# Altium footprint library NEC_RFINT.PcbLib: 4 footprints
Each footprint in its own frame and in the unit in brackets; x right, y up, seen from the top. Pads: shape width x height; smd on the part's side, far side on the other; paste and mask are expansions set on the pad; w line width, h text height; cw(c..) or ccw(c..) is an arc to the next point about the centre after c.
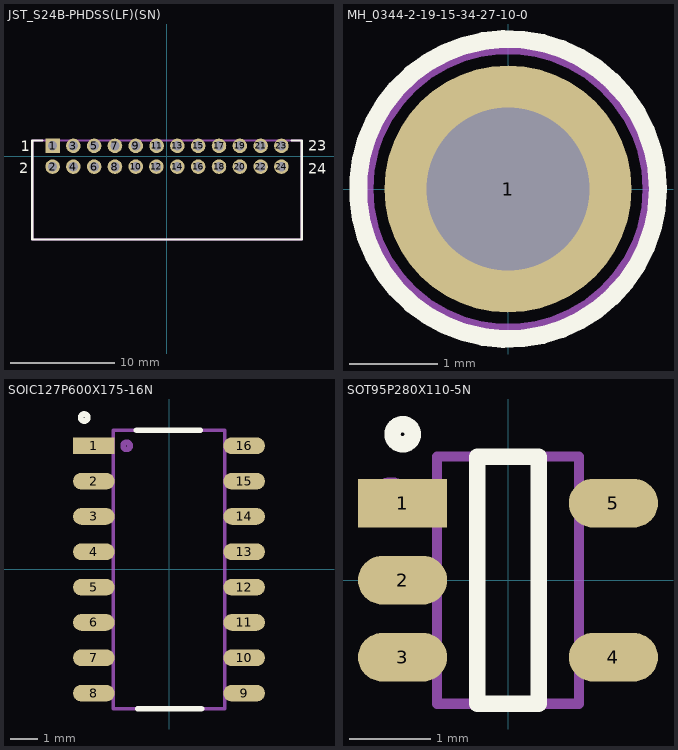
[diagram p0: the footprints below, top view; thin cyan lines are the x and y axes]

## JST_S24B-PHDSS(LF)(SN) [mm] "CONN HEADER R/A 26POS 2MM"
height 5
pads (24):
  rect 1.4x1.4 hole 0.9 mask+0.051: 1(-11,1)
  round 1.4 hole 0.9 mask+0.051: 2(-11,-1) 3(-9,1) 4(-9,-1) 5(-7,1) 6(-7,-1) 7(-5,1) 8(-5,-1) 9(-3,1) 10(-3,-1) 11(-1,1) 12(-1.016,-1) 13(1,1) 14(1,-1) 15(3,1) 16(3,-1) 17(5,1) 18(5,-1) 19(7,1) 20(7,-1) 21(9,1) 22(9,-1) 23(11,1) 24(11,-1)
Top Overlay:
  lines w0.203: -11.954,1.5 -12.95,1.5 ; 11.954,1.5 12.95,1.5 12.95,-8 -12.95,-8 -12.95,1.5 ; -12.95,1.5 -12.95,1.5
  text "1" at -14.037,0.483 h1.02
  text "2" at -14.224,-1.651 h1.02
  text "23" at 13.589,0.508 h1.02
  text "24" at 13.595,-1.66 h1.02
Mechanical 1:
  text "'.Designator'" at 0,0 h1.52
Mechanical 15:
  circle w0.127: c-11.049,0.889 r0.359
  lines w0.203: -12.95,-8 12.95,-8 12.95,1.5 -12.95,1.5 -12.95,-8
3D body "S24B-PHDSS.STEP": height 5, standoff -3, extent -12.95,-8 12.95,1.5

## MH_0344-2-19-15-34-27-10-0 [mm] "CONN PIN RCPT .032-.046 SWAGE"
height 5.84
pads (1):
  round 2.8 hole 1.85: 1(0,0)
Top Overlay:
  circle w0.203: c0,0 r1.7
Mechanical 1:
  text "'.Designator'" at 0,0 h1.52
Mechanical 15:
  circle w0.127: c0,0 r1.59

## SOIC127P600X175-16N [mm] "74HC4052D,653  2 Circuit IC Switch 4:1 150 Ohm 16-SO"
height 1.75
pads (16):
  rect 1.5x0.6 smd mask+0.076: 1(-2.7,4.445)
  oval 1.5x0.6 smd mask+0.076: 2(-2.7,3.175) 3(-2.7,1.905) 4(-2.7,0.635) 5(-2.7,-0.635) 6(-2.7,-1.905) 7(-2.7,-3.175) 8(-2.7,-4.445) 9(2.7,-4.445) 10(2.7,-3.175) 11(2.7,-1.905) 12(2.7,-0.635) 13(2.7,0.635) 14(2.7,1.905) 15(2.7,3.175) 16(2.7,4.445)
Top Overlay:
  circle w0.203: c-3.048,5.461 r0.127
  lines w0.203: -1.168,5 1.118,5 ; -1.118,-5 1.168,-5
Mechanical 1:
  text ".Designator" at 0,0 h1.52
Mechanical 15:
  circle w0.203: c-1.524,4.445 r0.127
  lines w0.127: -2,-5 2,-5 2,5 -2,5 -2,-5
3D body "User Library-SOIC127P600X175-16.step": height 1.65, standoff 0, extent -3.04,-5 3.04,5

## SOT95P280X110-5N [mm] "SOT23, 5-Leads, Body 2.90x2.80mm, Pitch 0.95mm, IPC Medium Density"
height 1.1
pads (5):
  rect 1.1x0.6 smd: 1(-1.3,0.95)
  oval 1.1x0.6 smd: 2(-1.3,0) 3(-1.3,-0.95) 4(1.3,-0.95) 5(1.3,0.95)
Top Overlay:
  circle w0.203: c-1.3,1.8 r0.125
  lines w0.203: -0.381,-1.525 0.381,-1.525 0.381,1.525 -0.381,1.525 -0.381,-1.525
Mechanical 1:
  text "'.Designator'" at 0,0 h1.52
Mechanical 15:
  circle w0.127: c-1.448,0.991 r0.216
  lines w0.127: -0.875,-1.525 -0.875,1.525 0.875,1.525 0.875,-1.525 -0.875,-1.525
3D body "SOT95P280X111-5N.step": height 1.11, standoff 0, extent -1.5,-1.525 1.5,1.525